# Altium schematic symbol library UVM AERO BSPD.SCHLIB: 70 symbols
Pins are listed as number, name and electrical type; pins without a type are passive.

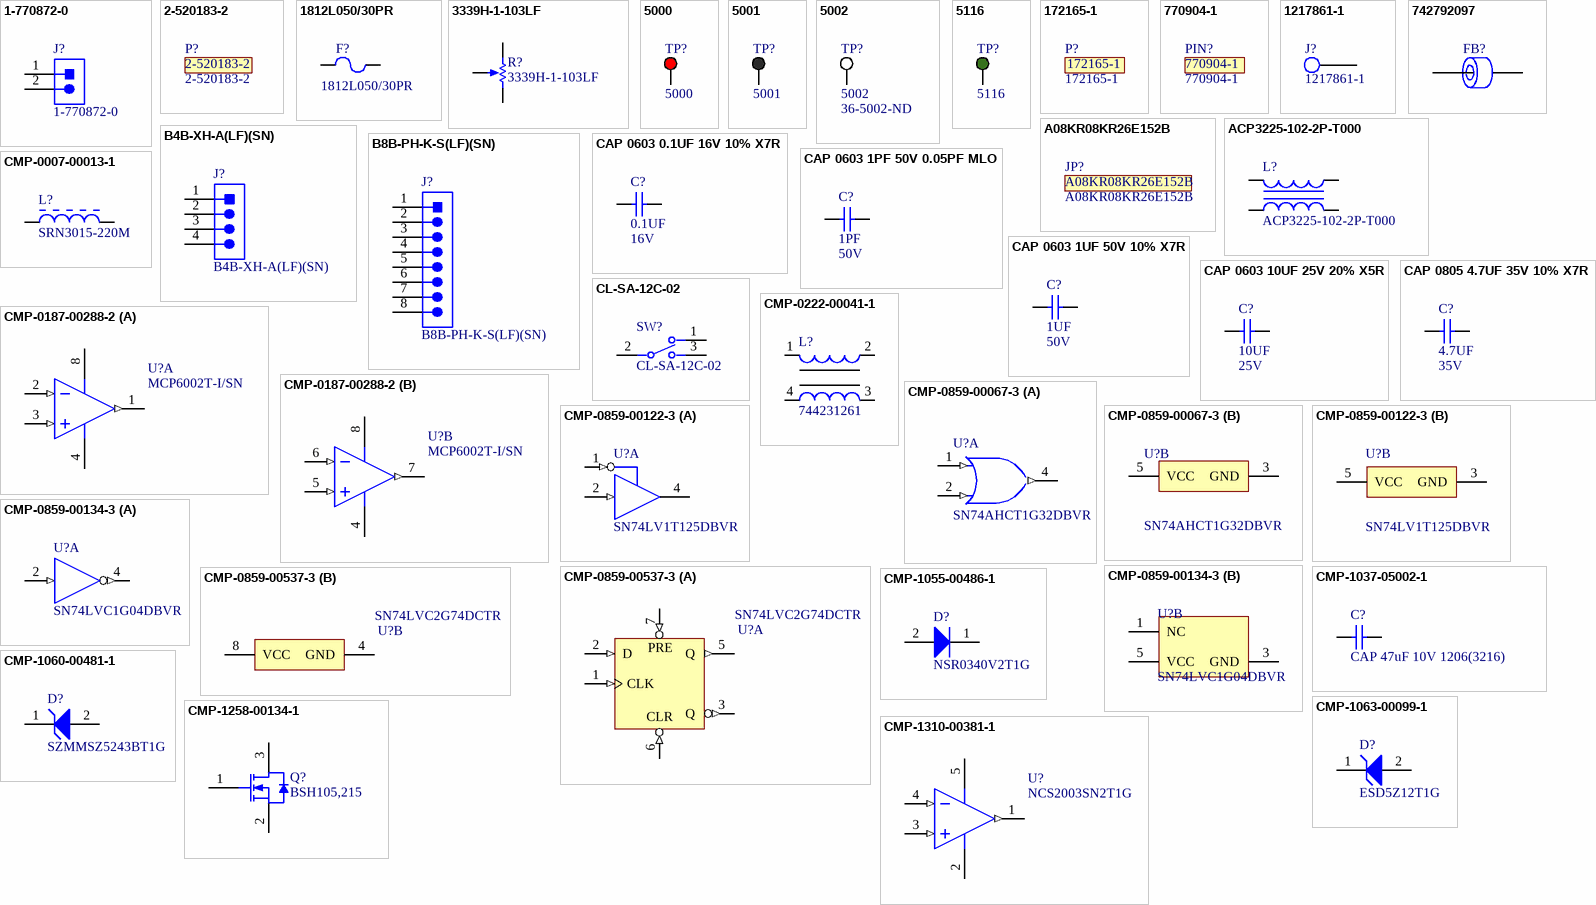
[diagram p0: symbols 1-770872-0 to CMP-1310-00381-1]

## 1-770872-0
designator J?
Connector Header Through Hole 2 position 0.163" (4.14mm); Vendor: TE Connectivity; Built_By: EMA_UL_Team; Manufacturer_Part_Number: 1-770872-0; Copyright: Copyright (C) 2018 Accelerated Designs. All rights reserved; RefDes: RefDes; Type: DEV; Value: Value
footprint CON2_1X2_P163_VM
footprint CON2_1X2_P163_VM_ALT
pins: 1, 2

## 2-520183-2
designator P?  (mechanical)
0.250" (6.35mm) Quick Connect Female 18-22 AWG Crimp Connector Fully Insulated; Supplier 1: Digi-Key; Supplier Part Number 1: A27817CT-ND

## 1812L050/30PR
designator F?
PTC Resettable Fuse, 0.8 W, 30 V, -40 to 85 degC, 2-Pin SMD, RoHS, Tape and Reel; Manufacturer: Littelfuse-Inc.; Manufacturer 1: Littelfuse; Voltage - Max: 30V; Current - Hold (Ih) (Max): 500mA; Time to Trip: 0.15s; Current - Max: 100A; R Min/Max: 0.150~1.000Ohm; Current - Trip (It): 1A; Package Reference: 1812; Family: PTCResettableFuses; Packaging: Tape&Reel(TR); Package / Case: 1812(4532Metric),Concave; Series: POLY-FUSE®,1812L; Mounting Technology: SurfaceMount; Datasheet Version: 02/2016; Datasheet URL: http://www.littelfuse.com/~/media/electronics/datasheets/resettable_ptcs/littelfuse_ptc_1812l_datasheet.pdf.pdf; Manufacturer URL: http://www.littelfuse.com/; Category: CircuitProtection; Package Description: 2-Pin Surface Mount Device, Body 4.55 x 3.24 mm; Manufacturer Part Number 1: 1812L050/30PR
footprint LFUS-1812L05030PR (SMD, 2-Leads, Body 4.55x3.24mm)
pins: 1, 2

## 3339H-1-103LF
designator R?
10 kOhms 0.5W, 1/2W PC Pins Through Hole Trimmer Potentiometer Cermet 4 Turn Top Adjustment; ComponentLink2URL: https://www.ttelectronics.com/TTElectronics/media/ProductFiles/Trimmers/Datasheets/67.pdf; ComponentLink2Description: Datasheet; Supplier 1: Digi-Key; Supplier Part Number 1: 3339H-103LF-ND
footprint 3339H-1-103LF
pins: 1 CCW, 2 WIPER, 3 CW

## 5000
designator TP?
Test Point, Red, 1-Pin THD, RoHS, Bulk; Manufacturer: KeystoneElectronics; Outside Diameter: 2.54mm; Plating: Silver; Mounting Hole Size: 1mm; Product: TestPoints; Packaging: Bulk; Manufacturer URL: http://www.keyelco.com/; Length: 7.62mm; Datasheet Version: Rev. G, 12/2008; Type: Miniature; Product Category: CircuitBoardHardware-PCB; Material: Nylon; RoHS: True; Contact Material: PhosphorBronze; Datasheet URL: https://ciiva.com/datasheet-click-2917627?src=ciiva&sig=bd195616; Color: Red; Brand: KeystoneElectronics; Supplier 1: Digi-Key; Supplier Part Number 1: 36-5000-ND
footprint KSTN-5002 (Test Point, Through Hole, Dia 2.54mm)
pins: 1

## 5001
designator TP?
Test Point, Black, 1-Pin THD, RoHS, Bulk; Manufacturer: KeystoneElectronics; Outside Diameter: 2.54mm; Plating: Silver; Mounting Hole Size: 1mm; Product: TestPoints; Packaging: Bulk; Manufacturer URL: http://www.keyelco.com/; Length: 7.62mm; Datasheet Version: Rev. G, 12/2008; Type: Miniature; Product Category: CircuitBoardHardware-PCB; Material: Nylon; RoHS: True; Contact Material: PhosphorBronze; Datasheet URL: https://ciiva.com/datasheet-click-2917627?src=ciiva&sig=bd195616; Color: Red; Brand: KeystoneElectronics; Supplier 1: Digi-Key; Supplier Part Number 1: 36-5001-ND
footprint KSTN-5002 (Test Point, Through Hole, Dia 2.54mm)
pins: 1

## 5002
designator TP?  Supplier Part Number 1: 36-5002-ND
Test Point, White, 1-Pin THD, RoHS, Bulk; Manufacturer: KeystoneElectronics; Outside Diameter: 2.54mm; Plating: Silver; Mounting Hole Size: 1mm; Product: TestPoints; Packaging: Bulk; Manufacturer URL: http://www.keyelco.com/; Length: 7.62mm; Datasheet Version: Rev. G, 12/2008; Type: Miniature; Product Category: CircuitBoardHardware-PCB; Material: Nylon; RoHS: True; Contact Material: PhosphorBronze; Datasheet URL: https://ciiva.com/datasheet-click-2917627?src=ciiva&sig=bd195616; Color: White; Brand: KeystoneElectronics; Supplier 1: Digi-Key
footprint KSTN-5002 (Test Point, Through Hole, Dia 2.54mm)
pins: 1

## 5116
designator TP?
Test Point, Green, 1-Pin THD, RoHS, Bulk; Manufacturer: KeystoneElectronics; Outside Diameter: 2.54mm; Plating: Silver; Mounting Hole Size: 1mm; Product: TestPoints; Packaging: Bulk; Manufacturer URL: http://www.keyelco.com/; Length: 7.62mm; Datasheet Version: Rev. G, 12/2008; Type: Miniature; Product Category: CircuitBoardHardware-PCB; Material: Nylon; RoHS: True; Contact Material: PhosphorBronze; Datasheet URL: https://ciiva.com/datasheet-click-2917627?src=ciiva&sig=bd195616; Color: Red; Brand: KeystoneElectronics; Supplier 1: Digi-Key; Supplier Part Number 1: 36-5116-ND
footprint KSTN-5002 (Test Point, Through Hole, Dia 2.54mm)
pins: 1

## 172165-1
designator P?  (mechanical)
2 Position Rectangular Housing Connector Plug Natural 0.163" (4.14mm); Supplier 1: Digi-Key; Supplier Part Number 1: A25587-ND

## 770904-1
designator PIN?  (mechanical)
Socket Contact  Crimp 18-22 AWG Stamped; Supplier 1: Digi-Key; Supplier Part Number 1: A25684CT-ND

## 1217861-1
designator J?
CONN TAB .250 STR QC TIN PCB; Gender: Male; Hole Diameter: 0.055inch; Insulation: Non-Insulated; Tab Length: 0.352inch; Tab Thickness: 0.032inch; Tab Width: 0.25inch; PCB Thickness: 0.062inch; Body Material: Brass; Insulated Wire Support: Yes; Contact Material: Brass; Contact Plating: Tin; ELV: Compliant; Length: 0.552inch; Material: Brass; Mount: Through Hole; Package Quantity: 2000; Packaging: Tape and Reel; Termination: Tab; Mating Tab Width: 0.25inch; Body Plating: Tin; Depth: 7.92mm; Plating: Tin; REACH SVHC: Unknown; Terminal Material: Brass; Lead Free: Lead Free; Supplier 1: Digi-Key; Supplier Part Number 1: A100452CT-ND
footprint 1217861-1
pins: 1

## 742792097
designator FB?, comment Ferrite Chip 1500 Ohms  (value not drawn)
Ferrite Chip 1000 mA 1500 Ohms Differential Mode - Single 0805 Footprint; Manufacturer: Wurth Electronics; P/N: 742792097; Description in Visual: Ferrite SMT 1000mA 1500Ohm Dif Mode 0805; Usage: Power Supply; Current (mA): 1000; Frequency: 100 MHz; Impedance at Freq (ohms): 1500; DC Resistance (ohms): 0.3; PCB Package: 0805; Manufacturer P/N: 742792097; Filter type: Differential Mode - Single; Operating Temperature Range: -55 to +125 °C; ComponentLink1Description: Manufacturer Website; ComponentLink1URL: http://www.we-online.com; ComponentLink2Description: Component Datasheet; ComponentLink2URL: http://www.we-online.com/eisos/pdf/742792097.pdf; ComponentLink3Description: Octopart Link; ComponentLink3URL: http://octopart.com/partsearch/#search/requestData&q=742792097
footprint 0805
pins: 1, 2

## A08KR08KR26E152B
designator JP?  (mechanical)
8 Position Cable Assembly Rectangular Socket to Socket 0.500' (152.40mm, 6.00"); Supplier 1: Digi-Key; Supplier Part Number 1: 455-3153-ND

## ACP3225-102-2P-T000
designator L?
Common Mode Filter, 1000 Ohm Impedance, 1.2 A, 60 V, -40 to 85 degC, 4-Pin SMD, RoHS, Tape and Reel; Manufacturer: TDK; Online Catalog: ACPSeries; Other Names: 445-8637-6; Current: 1.5A; Featured Product: ACP3225SeriesFilter; Number of Lines: 2; Filter Type: PowerLine; Impedance: 1kOhm; DC Resistance (DCR): 50mOhm; Manufacturer URL: http://www.tdk.com/; Package Description: 4-Pin Surface Mount Device, Body 3.2 x 2.5 mm, Pitch 1.15 mm; Datasheet Version: Rev. 8, 07/2011; Package / Case: 1210(3225Metric),4Lead; Packaging: Digi-Reel; Inductance: -; Height (Max): 0.079"(2.00mm); Operating Temperature: -40degC~85degC; Size / Dimension: 0.126"Lx0.098"W(3.20mmx2.50mm); Datasheet URL: https://datasheet.ciiva.com/30106/acp3225-series-30106482.pdf; Standard Package: 1; Series: ACP; Mounting Type: SurfaceMount; Package Reference: ACP3225-102-2P-T000-4; Family: CommonModeChokes; Category: Filters; Manufacturer 1: TDK; Manufacturer Part Number 1: ACP3225-102-2P-T000
footprint TDK-ACP3225-102-2P-T000-4_V (SMD, 4-Leads, Body 3.4x2.7mm)
pins: 1, 2, 3, 4

## B4B-XH-A(LF)(SN)
designator J?
Connector Header Through Hole 4 position 0.098" (2.50mm); Manufacturer: JST; No of Positions: 4; Style/Orientation: StraightHeader/Plug; Type: ShroudedHeader; Manufacturer URL: http://www.jst.com/home2.html; Termination: Crimp; Datasheet Version: Apr-09; Supplier 1: Newark; Supplier Part Number 1: 73M9436
footprint B4B-XH-A(LF)(SN)
pins: 1, 2, 3, 4

## B8B-PH-K-S(LF)(SN)
designator J?
Connector Header Through Hole 8 position 0.079" (2.00mm); Supplier 1: Digi-Key; Supplier Part Number 1: 455-1710-ND
footprint B8B-PH-K
pins: 1, 2, 3, 4, 5, 6, 7, 8

## CAP 0603 0.1UF 16V 10% X7R
designator C?  Val: 0.1UF  Vol: 16V  (hidden comment: CAP 0603 0.1UF 16V 10% X7R)
Capacitor Surface Mount 0603 Footprint 0.1UF 16V 10% Tolerance Ceramic X7R; Manufacturer: Various; PCB Package: 0603; Description in Visual: Cap SMT 0603 0.1UF 16V 10%  Cer X7R; P/N: CAP 0603 0.1UF 16V 10% X7R; Manufacturer P/N: Various; Value: 0.1UF; Voltage: 16V; Tolerance: 10%; Type: Ceramic X7R; ComponentLink1Description: Manufacturer Website; ComponentLink2Description: Component Datasheet; ComponentLink3Description: Octopart Link
footprint 0603_CAP
pins: 1, 2

## CAP 0603 1PF 50V 0.05PF MLO
designator C?  Val: 1PF  Vol: 50V  (hidden comment: CAP 0603 1PF 50V 0.05PF MLO)
Capacitor Surface Mount 0603 Footprint 1PF 50V 0.05PF Tolerance MLO; Manufacturer: Various; PCB Package: 0603; Description in Visual: Cap SMT 0603 1PF 50V 0.05PF  MLO; P/N: CAP 0603 1PF 50V 0.05PF MLO; Manufacturer P/N: Various; Value: 1PF; Voltage: 50V; Tolerance: 0.05PF; Type: MLO; ComponentLink1Description: Manufacturer Website; ComponentLink2Description: Component Datasheet; ComponentLink3Description: Octopart Link
footprint 0603_CAP
pins: 1, 2

## CAP 0603 1UF 50V 10% X7R
designator C?  Val: 1UF  Vol: 50V  (hidden comment: CAP 0603 1UF 50V 10% X7R)
Capacitor Surface Mount 0603 Footprint 1UF 50V 10% Tolerance Ceramic X7R; Manufacturer: Various; PCB Package: 0603; Description in Visual: Cap SMT 0603 1UF 50V 10% Ceramic X7R; P/N: CAP 0603 1UF 50V 10% X7R; Manufacturer P/N: Various; Value: 1UF; Voltage: 50V; Tolerance: 10%; Type: Ceramic X7R; ComponentLink1Description: Manufacturer Website; ComponentLink2Description: Component Datasheet; ComponentLink3Description: Octopart Link
footprint 0603_CAP
pins: 1, 2

## CAP 0603 10UF 25V 20% X5R
designator C?  Val: 10UF  Vol: 25V  (hidden comment: CAP 0603 10UF 25V 20% X5R)
Capacitor Surface Mount 0603 Footprint 10UF 25V 20% Tolerance Ceramic X5R; Manufacturer: Various; PCB Package: 0603; Description in Visual: Cap SMT 0603 10UF 25V 20% Ceramic X5R; P/N: CAP 0603 10UF 25V 20% X5R; Manufacturer P/N: Various; Value: 10UF; Voltage: 25V; Tolerance: 20%; Type: Ceramic X5R; ComponentLink1Description: Manufacturer Website; ComponentLink2Description: Component Datasheet; ComponentLink3Description: Octopart Link
footprint 0603_CAP
pins: 1, 2

## CAP 0805 4.7UF 35V 10% X7R
designator C?  Val: 4.7UF  Vol: 35V  (hidden comment: CAP 0805 4.7UF 35V 10% X7R)
Capacitor Surface Mount 0805 Footprint 4.7UF 35V 10% Tolerance Ceramic X7R; Manufacturer: Various; PCB Package: 0805; Description in Visual: Cap SMT 0805 4.7UF 35V 10%  Cer X7R; P/N: CAP 0805 4.7UF 35V 10% X7R; Manufacturer P/N: Various; Value: 4.7UF; Voltage: 35V; Tolerance: 10%; Type: Ceramic X7R; ComponentLink1Description: Manufacturer Website; ComponentLink2Description: Component Datasheet; ComponentLink3Description: Octopart Link
footprint 0805_CAP
pins: 1, 2

## CL-SA-12C-02
designator SW?
Slide Switch SPDT Through Hole; Supplier 1: Digi-Key; Supplier Part Number 1: 563-1388-ND
footprint CL-SA-12C-02
pins: 1, 2, 3

## CMP-0007-00013-1
designator L?, comment SRN3015-220M
Semi-shielded Power Inductor, 22 uH, +/- 20%, 0.6 A, -40 to 125 degC, 3 x 3 x 1.5 mm SMD, RoHS and Halogen Free, Tape and Reel; Manufacturer: Bourns; SRF Min: 28 MHz; Isat: 0.58 A; Resistance to Solder Heat: +260 degC for 10 sec.; Inductance tolerance: +/- 20%; Inductance: 22 uH; Rated current: 0.6 A; DCR Max: 0.622 Ohm; RoHS: TRUE; ComponentLink1Description: Manufacturer URL; ComponentLink3URL: http://www.bourns.com/data/global/pdfs/SRN3015.pdf; PartNumber: SRN3015-220M; DatasheetVersion: Aug-11; Mounting Technology: Surface Mount; ComponentLink3Description: Package Specification; ComponentLink2Description: Datasheet; Operating Temperature: -40 to 125 degC; PackageDescription: 2-Pin SMD, Body 3 x 3 mm, Height 1.5 mm; Packing: Tape and Reel; PackageReference: SRN3015; ComponentLink2URL: http://www.bourns.com/data/global/pdfs/SRN3015.pdf; ComponentLink1URL: http://www.bourns.com/; Manufacturer 1: Bourns; Manufacturer Part Number 1: SRN3015-220M
footprint BOUR-SRN3015-2_V (SMD, 2-Leads, Body 3x3mm, Height 1.5mm)
pins: 1, 2

## CMP-0187-00288-2
designator U?, comment MCP6002T-I/SN
1 MHz, Low-Power Operational Amplifier, 8-Pin SOIC, Industrial Temperature, Tape and Reel; Manufacturer 1: Microchip; ComponentLink2Description: Datasheet; Code_JEDEC: MS-012; ComponentLink1Description: Manufacturer URL; PackageDescription: 8-Lead Plastic Small Outline (SN) - Narrow, 3.90mm Body [SOIC]; PackageVersion: revBB, Aug-2009; DatasheetVersion: revJ, Nov-2009; Code_IPC: SOIC127P600-8; ComponentLink3URL: http://www.microchip.com/stellent/groups/techpub_sg/documents/packagingspec/en012702.pdf; ComponentLink3Description: Package Specification; PackageReference: SOIC-SN8; ComponentLink2URL: http://ww1.microchip.com/downloads/en/DeviceDoc/21733j.pdf; RevisionNote: URLs added.; ComponentLink1URL: http://www.microchip.com/; Manufacturer Part Number 1: MCP6002T-I/SN
footprint SOIC-SN8_L (SOIC, 8-Leads, Body 4.9x3.8mm, Pitch 1.27mm, IPC High Density)
footprint SOIC-SN8_N (SOIC, 8-Leads, Body 4.9x3.8mm, Pitch 1.27mm, IPC Medium Density)
footprint SOIC-SN8_M (SOIC, 8-Leads, Body 4.9x3.8mm, Pitch 1.27mm, IPC Low Density)
pins on every part: 4 VSS (power), 8 VDD (power)
part A pins: 1 VOUTA (out), 2 VINA- (in), 3 VINA+ (in)
part B pins: 5 VINB+ (in), 6 VINB- (in), 7 VOUTB (out)

## CMP-0222-00041-1
designator L?, comment 744231261
SMD Common Mode Noise Suppressor WE-CNSW, Z = 260 Ohm; Manufacturer 1: Wurth Electronics; Impedance: 260 Ohm; ComponentLink1URL: http://www.we-online.com; PackageDescription: SMD Inductor, 4-Leads, Body 1.4 x 2.2 mm; PackageVersion: 2010; ComponentLink2Description: Datasheet; DatasheetVersion: ver 4, Nov-2010; ComponentLink1Description: Manufacturer Link; PackageReference: WE-CNSW-0805; ComponentLink2URL: http://www.we-online.de/katalog/media/pdf/744231261.pdf; Manufacturer Part Number 1: 744231261
footprint WE-CNSW-0805 (SMD Inductor, 4-Leads, Body 1.4x2.2x1.4 mm)
pins: 1, 2, 3, 4

## CMP-0859-00067-3
designator U?, comment SN74AHCT1G32DBVR
Single 2-Input Positive-OR Gate, DBV0005A, LARGE T&R; Manufacturer: Texas Instruments; Technology Family: AHCT; VCC(Min)(V): 2; Voltage(Nom)(V): 5; Schmitt Trigger: No; Gate Type: OR; Sub-Family: OR Gate; Input Type: CMOS; ICC @ Nom Voltage(Max)(mA): 0.01; VCC(Max)(V): 5.5; Bits(#): 1; F @ Nom Voltage(Max)(Mhz): 75; Output Drive (IOL/IOH)(Max)(mA): 8/-8; tpd @ Nom Voltage(Max)(ns): 8; Logic: True; Rating: Catalog; Operating Temperature Range(C): -40 to 125; Generic Part Number: SN74AHCT1G32; DatasheetVersion: SCLS320O; PackageReference: DBV0005A; 3-State Output: No; Output Type: CMOS; Manufacturer 1: Texas Instruments; Manufacturer Part Number 1: SN74AHCT1G32DBVR
footprint DBV0005A_M (SOT23, 5-Leads, Body 3.05x1.75mm, Pitch 0.95mm, IPC Low Density)
footprint DBV0005A_N (SOT23, 5-Leads, Body 3.05x1.75mm, Pitch 0.95mm, IPC Medium Density)
footprint DBV0005A_L (SOT23, 5-Leads, Body 3.05x1.75mm, Pitch 0.95mm, IPC High Density)
part A pins: 1 A (in) "Input A", 2 B (in) "Input B", 4 Y (out) "Output Y"
part B pins: 3 GND (power) "Ground Pin", 5 VCC (power) "Power Pin"

## CMP-0859-00122-3
designator U?, comment SN74LV1T125DBVR
Single Power Supply, Single BUFFER GATE w/ 3-State Output (active low enable), DBV0005A, LARGE T&R; Manufacturer: Texas Instruments; Schmitt Trigger: No; Sub-Family: Non-Inverting Buffer/Driver; Voltage(Nom)(V): 1.8,2.5,3.3,5.5; Output Drive (IOL/IOH)(Max)(mA): 8/-8; Bits(#): 1; Technology Family: LV1T; F @ Nom Voltage(Max)(Mhz): 50; Output Type: CMOS; Input Type: TTL; VCC(Min)(V): 1.6; tpd @ Nom Voltage(Max)(ns): 14.5,9.5,8.0,6.5; 3-State Output: Yes; ICC @ Nom Voltage(Max)(mA): 0.01; Rating: Catalog; Logic: True; Special Features: 1.8V to 3.3V Up Translation,3.3V to 1.8V Down Translation,5V Input Tolerant; VCC(Max)(V): 5.5; PackageReference: DBV0005A; Generic Part Number: SN74LV1T125; Operating Temperature Range(C): -40 to 125; DatasheetVersion: SCLS745A; Manufacturer 1: Texas Instruments; Manufacturer Part Number 1: SN74LV1T125DBVR
footprint DBV0005A_M (SOT23, 5-Leads, Body 3.05x1.75mm, Pitch 0.95mm, IPC Low Density)
footprint DBV0005A_N (SOT23, 5-Leads, Body 3.05x1.75mm, Pitch 0.95mm, IPC Medium Density)
footprint DBV0005A_L (SOT23, 5-Leads, Body 3.05x1.75mm, Pitch 0.95mm, IPC High Density)
part A pins: 1 ~{OE} (in), 2 A (in), 4 Y (hiz)
part B pins: 3 GND (power), 5 VCC (power)

## CMP-0859-00134-3
designator U?, comment SN74LVC1G04DBVR
Single Inverter, DBV0005A, LARGE T&R; Manufacturer: Texas Instruments; 3-State Output: No; Sub-Family: Inverting Buffer/Driver; Logic: Inverting; Rating: Catalog; VCC(Max)(V): 5.5; ICC @ Nom Voltage(Max)(mA): 0.01; Output Type: CMOS; Output Drive (IOL/IOH)(Max)(mA): 32/-32; tpd @ Nom Voltage(Max)(ns): 7.5,5.2,4.2,3.7; Technology Family: LVC; Input Type: CMOS/TTL; Bits(#): 1; F @ Nom Voltage(Max)(Mhz): 150; VCC(Min)(V): 1.65; Voltage(Nom)(V): 1.8,2.5,3.3,5; DatasheetVersion: SCES214AD; Schmitt Trigger: No; Operating Temperature Range(C): -40 to 125,-40 to 85; PackageReference: DBV0005A; Generic Part Number: SN74LVC1G04; Manufacturer 1: Texas Instruments; Manufacturer Part Number 1: SN74LVC1G04DBVR
footprint DBV0005A_M (SOT23, 5-Leads, Body 3.05x1.75mm, Pitch 0.95mm, IPC Low Density)
footprint DBV0005A_N (SOT23, 5-Leads, Body 3.05x1.75mm, Pitch 0.95mm, IPC Medium Density)
footprint DBV0005A_L (SOT23, 5-Leads, Body 3.05x1.75mm, Pitch 0.95mm, IPC High Density)
part A pins: 2 A (in) "Input A", 4 Y (out) "Output Y"
part B pins: 1 NC "Ground", 3 GND (power) "Ground Pin", 5 VCC (power) "Power Pin"

## CMP-0859-00537-3
designator U?, comment SN74LVC2G74DCTR
Single Positive-Edge-Triggered D-Type Flip-Flop with Clear and Preset, DCT0008A, LARGE T&R; Manufacturer: Texas Instruments; Output Type: CMOS; Schmitt Trigger: No; ICC @ Nom Voltage(Max)(mA): 0.01; VCC(Max)(V): 5.5; Output Drive (IOL/IOH)(Max)(mA): 32/-32; Input Type: CMOS/TTL; Rating: Catalog; Technology Family: LVC; Bits(#): 1; F @ Nom Voltage(Max)(Mhz): 150; tpd @ Nom Voltage(Max)(ns): 13.4,7.1,5.9,4.1; Voltage(Nom)(V): 1.8,2.5,3.3,5; Logic: True; VCC(Min)(V): 1.65; Operating Temperature Range(C): -40 to 125,-40 to 85; Sub-Family: D-Type Flip-Flop; Generic Part Number: SN74LVC2G74; 3-State Output: No; PackageReference: DCT0008A; DatasheetVersion: SCES203O; Manufacturer 1: Texas Instruments; Manufacturer Part Number 1: SN74LVC2G74DCTR
footprint DCT0008A_M (SOP, 8-Leads, Body 2.9x3.2mm, Pitch 0.65mm, IPC Low Density)
footprint DCT0008A_L (SOP, 8-Leads, Body 2.9x3.2mm, Pitch 0.65mm, IPC High Density)
footprint DCT0008A_N (SOP, 8-Leads, Body 2.9x3.2mm, Pitch 0.65mm, IPC Medium Density)
part A pins: 1 CLK (in) "Clock input", 2 D (in) "Input", 3 Q (out) "Inverted output", 5 Q (out) "Output", 6 ~{CLR} (in) "Clear input - Pull low to set Q output low", 7 ~{PRE} (in) "Preset input - Pull low to set Q output high"
part B pins: 4 GND (power) "Ground", 8 VCC (power) "Supply"
part A text: PRE; CLR

## CMP-1037-05002-1
designator C?, comment CAP 47uF 10V 1206(3216)
CAP 47uF 10V ±20% 1206 (3216 Metric) Thickness 1.9mm SMD; Manufacturer 1: KEMET; Manufacturer Part Number 1: C1206C476M8PACTU; Case-Metric: 3216; Case-EIA: 1206; Tolerance: Â±20%; Technology: SMT; Rated Voltage: 10 V; Value: 47uF; Max Thickness: 1.9 mm; Manufacturer 2: TDK; Manufacturer Part Number 2: C3216X5R1A476M; Manufacturer 3: TDK; Manufacturer Part Number 3: C3216X6S1A476M; Manufacturer 4: KEMET; Manufacturer Part Number 4: C1206C476M8PAC
footprint CAPC1206(3216)190_N (Chip Capacitor, Body 3.2x1.6mm, Height 1.9mm, IPC Medium Density)
footprint CAPC1206(3216)190_M (Chip Capacitor, Body 3.2x1.6mm, Height 1.9mm, IPC Low Density)
footprint CAPC1206(3216)190_L (Chip Capacitor, Body 3.2x1.6mm, Height 1.9mm, IPC High Density)
pins: 1, 2
1 alternate drawing of the same symbol

## CMP-1055-00486-1
designator D?, comment NSR0340V2T1G
Schottky Barrier Diode, 2-Pin SOD-523, Pb-Free, Tape and Reel; Manufacturer: On Semiconductor; IFSM Max (A): 1; Configuration: Single; PackageDescription: 2-Pin SOD, Body 1.2 x 0.8 mm; DatasheetVersion: Rev. 1; RoHS: TRUE; ComponentLink1Description: Manufacturer URL; ComponentLink2Description: Datasheet; PackageVersion: Rev. E, 09/2010; Packing: Tape and Reel; ComponentLink3Description: Package Specification; ComponentLink3URL: http://www.onsemi.com/pub_link/Collateral/502-01.PDF; ComponentLink2URL: http://www.onsemi.cn/pub_link/Collateral/NSR0340V2T1-D.PDF; PackageReference: SOD-523-2-502-01; PartNumber: NSR0340V2T1G; ComponentLink1URL: http://www.onsemi.com/; Mounting Technology: Surface Mount; Manufacturer 1: ON Semiconductor; Manufacturer Part Number 1: NSR0340V2T1G
footprint ONSC-SOD-523-2-502-01_V (SOD, 2-Leads, Body 1.2x0.8mm)
pins: 1 K, 2 A

## CMP-1060-00481-1
designator D?, comment SZMMSZ5243BT1G
Zener Voltage Regulator, 500 mW, 2-Pin SOD-123, Pb-Free, Tape and Reel; Manufacturer: On Semiconductor; VZ Typ (V): 13; P Max (W): 0.5; DatasheetVersion: Rev. 12; RoHS: Pb-Free; PartNumber: SZMMSZ5243BT1G; ComponentLink3Description: Package Specification; ComponentLink1URL: http://www.onsemi.com/; PackageReference: SOD-123-2-425-04; ComponentLink2Description: Datasheet; PackageVersion: Rev. G, 10/2009; Packing: Tape and Reel; Mounting Technology: Surface Mount; ComponentLink1Description: Manufacturer URL; PackageDescription: 2-Pin SOD, Body 1.6 x 2.69 mm; ComponentLink2URL: http://www.onsemi.cn/pub_link/Collateral/MMSZ5221BT1-D.PDF; ComponentLink3URL: http://www.onsemi.com/pub_link/Collateral/425-04.PDF; Manufacturer 1: ON Semiconductor; Manufacturer Part Number 1: SZMMSZ5243BT1G
footprint ONSC-SOD-123-2-425-04_V (SOD, 2-Leads, Body 2.69x1.6mm)
pins: 1 K, 2 A

## CMP-1063-00099-1
designator D?, comment ESD5Z12T1G
Transient Voltage Suppressor, Micro-Packaged Diode for ESD Protection, 2-Pin SOD-523, Pb-Free, Tape and Reel; Manufacturer: On Semiconductor; VRWM Max (V): 12; Number of Lines: 1; V(BR) Min (V): 14.1; Direction: Unidirectional; IR Max (uA): 0.01; PPK Max (W): 240; ComponentLink1URL: http://www.onsemi.com/; PartNumber: ESD5Z12T1G; RoHS: Pb-Free; ComponentLink3Description: Package Specification; PackageVersion: Rev. E, 09/2010; PackageReference: SOD-523-2-502-01; PackageDescription: 2-Pin SOD, Body 1.2 x 0.8 mm; ComponentLink2Description: Datasheet; ComponentLink1Description: Manufacturer URL; Mounting Technology: Surface Mount; DatasheetVersion: Rev. 10; ComponentLink3URL: http://www.onsemi.com/pub_link/Collateral/502-01.PDF; ComponentLink2URL: http://www.onsemi.cn/pub_link/Collateral/ESD5Z2.5T1-D.PDF; Packing: Tape and Reel; Manufacturer 1: ON Semiconductor; Manufacturer Part Number 1: ESD5Z12T1G
footprint ONSC-SOD-523-2-502-01_V (SOD, 2-Leads, Body 1.2x0.8mm)
pins: 1 K, 2 A

## CMP-1258-00134-1
designator Q?, comment BSH105,215
N-Channel Enhancement Mode MOS Transistor, 20 V, 1.05 A, -55 to 150 degC, 3-Pin SOT23, Tape and Reel; Manufacturer: NXP Semiconductors; Manufacturer Part Number 1: BSH105215; VDS [max] (V): 20; Packing: Tape & Reel; ID [max] (A): 1.05; Channel Type: N; Ciss [typ] (pF): 152; Coss [typ] (pF): 71; Qr [typ] (nC): 19; VGSth [typ] (V): 0.57; PackageDescription: 3-Pin Small Outline Transistor Package, Body 2.9 x 1.3 mm, Pitch 0.95 mm; ComponentLink2URL: http://www.nxp.com/documents/data_sheet/BSH105.pdf; ComponentLink3Description: Package Specification; ComponentLink2Description: Datasheet; Mounting Technology: Surface Mount; ComponentLink3URL: http://www.nxp.com/documents/outline_drawing/sot023_po.pdf; PartNumber: BSH105,215; DatasheetVersion: Rev. 1.000; ComponentLink1Description: Manufacturer URL; ComponentLink1URL: http://www.nxp.com/; PackageVersion: 06-03-16, 03/2006; PackageReference: SOT23; Code_JEDEC: TO-236AB; Manufacturer 1: NXP Semiconductors
footprint NXP-SOT23_M (SOT23, 3-Leads, Body 3x1.4mm, Pitch 0.95mm, IPC Low Density)
footprint NXP-SOT23_N (SOT23, 3-Leads, Body 3x1.4mm, Pitch 0.95mm, IPC Medium Density)
footprint NXP-SOT23_L (SOT23, 3-Leads, Body 3x1.4mm, Pitch 0.95mm, IPC High Density)
pins: 1 G "gate", 2 S "source", 3 D "drain"

## CMP-1310-00381-1
designator U?, comment NCS2003SN2T1G
Low Voltage, Rail-to-Rail Output Operational Amplifier, 1.7 to 5.5 V, -40 to 85 degC, 5-Pin TSOP, Pb-Free, Tape and Reel; Manufacturer: On Semiconductor; VCC Max (V): 5.5; VCC Min (V): 1.7; ComponentLink3URL: http://www.onsemi.com/pub_link/Collateral/483.PDF; Packing: Tape and Reel; ComponentLink1URL: http://www.onsemi.com/; PackageReference: TSOP-5-483-02; Mounting Technology: Surface Mount; PackageVersion: Rev. K, 04/2013; PartNumber: NCS2003SN2T1G; DatasheetVersion: Rev. 3; ComponentLink2URL: http://www.onsemi.cn/pub_link/Collateral/NCS2003-D.PDF; ComponentLink2Description: Datasheet; ComponentLink3Description: Package Specification; RoHS: TRUE; PackageDescription: 5-Pin Small Outline Package, Body 3 x 1.5 mm, Pitch 0.95 mm; ComponentLink1Description: Manufacturer URL; Manufacturer 1: ON Semiconductor; Manufacturer Part Number 1: NCS2003SN2T1G
footprint ONSC-TSOP-5-483-02_V (SOP, 5-Leads, Body 3x1.5mm, Pitch 0.95mm)
pins: 1 VOUT (out), 2 VSS (power), 3 IN+ (in), 4 IN- (in), 5 VDD (power)

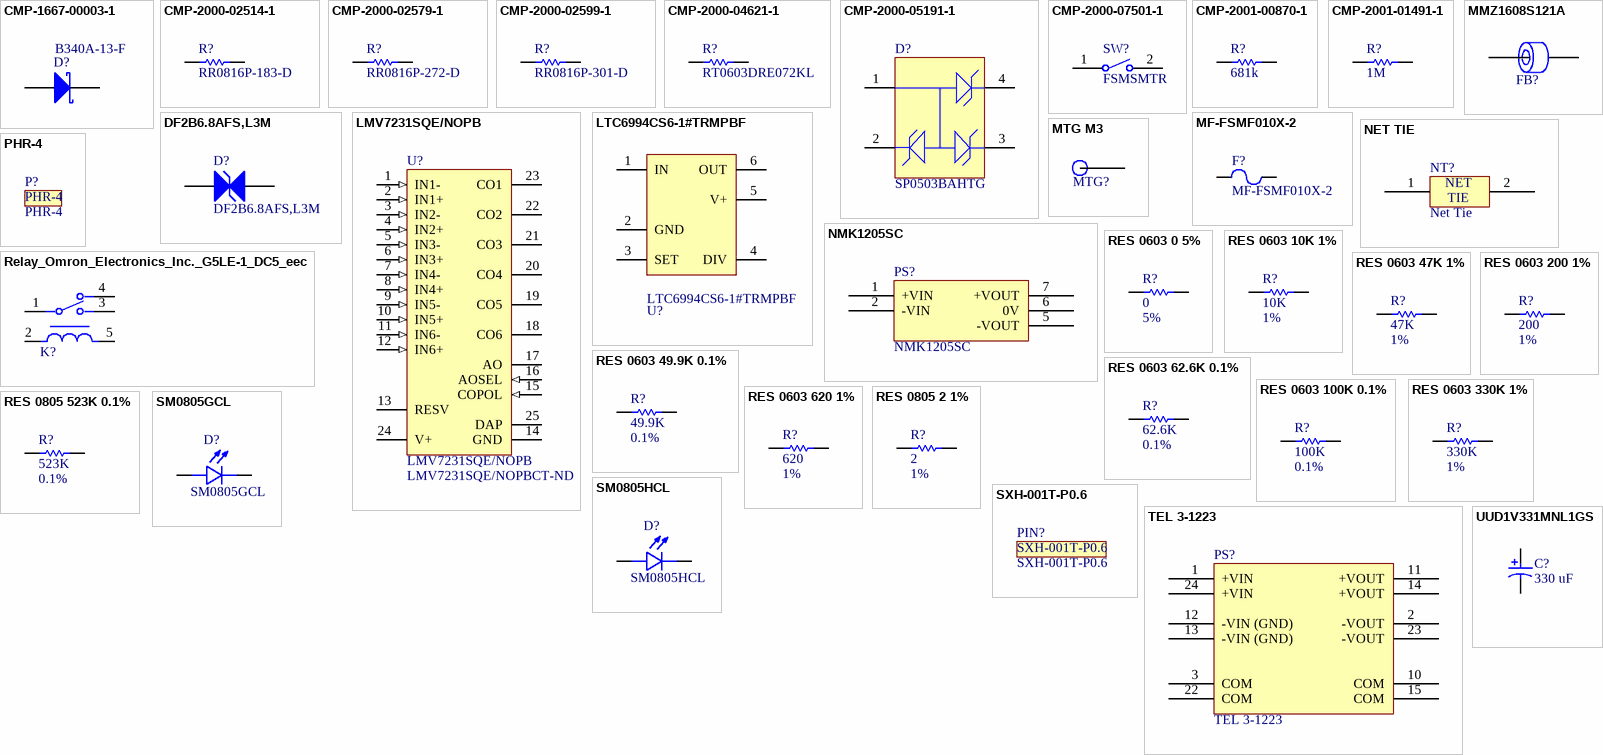
[diagram p1: symbols CMP-1667-00003-1 to UUD1V331MNL1GS]

## CMP-1667-00003-1
designator D?, comment B340A-13-F
Surface Mount Schottky Barrier Rectifier, 40 V, 3 A, -55 to 150 degC, 2-Pin SMA, RoHS, Tape and Reel; Manufacturer 1: Diodes; Forward Current: 3 A; Forward Voltage: 500 mV; Max Surge Current: 80 A; Peak Reverse Current: 500 uA; Elements: 1; Mounting Technology: Surface Mount; ComponentLink1URL: http://www.diodes.com/; PackageDescription: 2-Pin Surface Mounted Assembly, Body 4.3 x 2.605 mm, Height 2.4 mm; Min Operating Temperature: -55 degC; Mount: Surface Mount; Pins: 2; ComponentLink2URL: http://www.diodes.com/_files/datasheets/ds30891.pdf; PackageReference: SMA-2; Max Operating Temperature: 125 degC; Radiation Hardening: No; Length: 4.6 mm; RoHSCompliant: true; ComponentLink1Description: Manufacturer URL; Height: 2.1 mm; ComponentLink2Description: Datasheet; Packaging: Tape and Reel; Package Quantity: 5000; Case\Package: SMA; DatasheetVersion: Rev. 17 - 2, 09/2015; REACH SVHC: No SVHC; Width: 2.92 mm; Manufacturer Part Number 1: B340A-13-F
footprint DIOD-SMA-2_V (Molded Diode, 2-Leads, Body 4.6x2.92mm)
pins: 1 A, 2 K

## CMP-2000-02514-1
designator R?, comment RR0816P-183-D
Manufacturer: Susumu; Part Number: RR0816P-183-D; Manufacturer 1: Susumu; Manufacturer Part Number 1: RR0816P-183-D
footprint RESC1608X50X30ML20T20 (Chip Resistor, 2-Leads, Body 1.60x0.80mm, IPC Low Density)
footprint RESC1608X50X30LL20T20 (Chip Resistor, 2-Leads, Body 1.60x0.80mm, IPC High Density)
footprint RESC1608X50X30NL20T20 (Chip Resistor, 2-Leads, Body 1.60x0.80mm, IPC Medium Density)
pins: 1, 2
1 alternate drawing of the same symbol

## CMP-2000-02579-1
designator R?, comment RR0816P-272-D
Manufacturer: Susumu; Part Number: RR0816P-272-D; Manufacturer 1: Susumu; Manufacturer Part Number 1: RR0816P-272-D
footprint RESC1608X50X30NL20T20 (Chip Resistor, 2-Leads, Body 1.60x0.80mm, IPC Medium Density)
footprint RESC1608X50X30LL20T20 (Chip Resistor, 2-Leads, Body 1.60x0.80mm, IPC High Density)
footprint RESC1608X50X30ML20T20 (Chip Resistor, 2-Leads, Body 1.60x0.80mm, IPC Low Density)
pins: 1, 2
1 alternate drawing of the same symbol

## CMP-2000-02599-1
designator R?, comment RR0816P-301-D
Manufacturer: Susumu; Part Number: RR0816P-301-D; Manufacturer 1: Susumu; Manufacturer Part Number 1: RR0816P-301-D
footprint RESC1608X50X30ML20T20 (Chip Resistor, 2-Leads, Body 1.60x0.80mm, IPC Low Density)
footprint RESC1608X50X30NL20T20 (Chip Resistor, 2-Leads, Body 1.60x0.80mm, IPC Medium Density)
footprint RESC1608X50X30LL20T20 (Chip Resistor, 2-Leads, Body 1.60x0.80mm, IPC High Density)
pins: 1, 2
1 alternate drawing of the same symbol

## CMP-2000-04621-1
designator R?, comment RT0603DRE072KL
Manufacturer: Yageo; Part Number: RT0603DRE072KL; Manufacturer 1: Yageo; Manufacturer Part Number 1: RT0603DRE072KL
footprint RESC1608X55X25NL10T15 (Chip Resistor, 2-Leads, Body 1.60x0.80mm, IPC Medium Density)
footprint RESC1608X55X25ML10T15 (Chip Resistor, 2-Leads, Body 1.60x0.80mm, IPC Low Density)
footprint RESC1608X55X25LL10T15 (Chip Resistor, 2-Leads, Body 1.60x0.80mm, IPC High Density)
pins: 1, 2
1 alternate drawing of the same symbol

## CMP-2000-05191-1
designator D?, comment SP0503BAHTG
TVS Diode Array, 30 pF, 30 KV, -40 to 85 degC, 4-Pin SOT143, RoHS, Tape and Reel; Manufacturer: Littelfuse; Direction Type: Uni-Directional; Product Height (mm): 1.05mm; Leakage Current (Max): 0.1uA; Clamping Voltage (Max): 8V; Reverse Stand-off Voltage: 5.5(Min)V; Configuration: Triple; Working Voltage: 5.5V; Product Length (mm): 3.04mm; Working Voltage (Max): 5.5V(Min); Capacitance Value: 30pF; Rad Hardened: No; Number of Elements: 3; Product Depth (mm): 1.4mm; Operating Temperature Max Deg. C: 85C; Suppressor Type: TVS; Operating Temperature Min Deg. C: -40C; Operating Temp Range: -40Cto85C; Mounting: SurfaceMount; Package / Case: SOT-143; Datasheet Version: Dec-13; Package Type: SOT-143; Packaging: TapeandReel; Pin Count: 3+Tab; Operating Temperature Classification: Industrial; Datasheet URL: https://datasheet.ciiva.com/15143/getdatasheetpartid-116020-15143550.pdf; Manufacturer URL: http://www.littelfuse.com/; Leakage Current: 0.1uA; Mounting Style: SurfaceMount; Clamping Voltage: 8V; Polarity: Uni-Directional; Manufacturer 1: Littelfuse; Manufacturer Part Number 1: SP0503BAHTG
footprint LFUS-SOT143-4_V (SOT143, 4-Leads, Body 3.04x1.4mm, Pitch 1.90mm)
pins: 1, 2, 3, 4

## CMP-2000-07501-1
designator SW?, comment FSMSMTR
FSMSM Push Button Switch, 50 mA, -35 to 85 degC, 2-Pin SMD, RoHS, Tape and Reel; Manufacturer: TE Connectivity; Voltage Rating (DC): 24V; Electrical Life: 20000Cycles; Operating Force: 180gf; Switch Travel: 0.25mm; Contact Current Rating: 50mA; Case\/Package: SMD/SMT; Actuator Length: 1.07mm; Throw Configuration: SPST; Actuator Material: Polyamide; Contact Resistance: 100mOhm; Illumination Type: Illuminated; Max Voltage Rating (DC): 12V; Manufacturer URL: http://www.te.com/; Lead Free: LeadFree; Packaging: TapeandReel; Min Operating Temperature: -35degC; Mechanical Life: 20000Cycles; Mount: SurfaceMount; REACH SVHC: Unknown; Package Quantity: 1800; Package Reference: FSMSMTR; RoHSCompliant: true; Max Operating Temperature: 85degC; Orientation: Straight; ELV: Compliant; Datasheet URL: http://www.te.com/commerce/DocumentDelivery/DDEController?Action=showdoc&DocId=Customer+Drawing%7F1437566-3%7FC2%7Fpdf%7FEnglish%7FENG_CD_1437566-3_C2_1437566_3_1_c.dwg.pdf%7F1437566-4; Package Description: 2-Pin Surface Mount Device, Body 6 x 3.5 mm, Pitch 9.19 mm; Current Rating: 50mA; Contact Plating: Silver; Termination: GullWing; Datasheet Version: Rev. C2, 08/2014; Contact Material: Brass; Mounting Technology: SurfaceMount; Manufacturer 1: TE Connectivity; Manufacturer Part Number 1: FSMSMTR
footprint TECO-FSMSMTR_V (SMD, 2-Leads, Body 6x3.5mm, Pitch 9.19mm)
pins: 1, 2

## CMP-2001-00870-1
designator R?, comment value 681k  (hidden comment: ERA6AEB6813V)
Manufacturer: Panasonic; Manufacturer Part Number 1: ERA-6AEB6813V; Part Number: ERA6AEB6813V; Manufacturer 1: Panasonic
footprint RESC2013X60X40NL20T25 (Chip Resistor, 2-Leads, Body 2.00x1.25mm, IPC Medium Density)
footprint RESC2013X60X40LL20T25 (Chip Resistor, 2-Leads, Body 2.00x1.25mm, IPC High Density)
footprint RESC2013X60X40ML20T25 (Chip Resistor, 2-Leads, Body 2.00x1.25mm, IPC Low Density)
pins: 1, 2
1 alternate drawing of the same symbol

## CMP-2001-01491-1
designator R?, comment value 1M  (hidden comment: RT0805BRE071ML)
Manufacturer: Yageo; Part Number: RT0805BRE071ML; Manufacturer 1: Yageo; Manufacturer Part Number 1: RT0805BRE071ML
footprint RESC2013X60X35ML10T20 (Chip Resistor, 2-Leads, Body 2.00x1.25mm, IPC Low Density)
footprint RESC2013X60X35NL10T20 (Chip Resistor, 2-Leads, Body 2.00x1.25mm, IPC Medium Density)
footprint RESC2013X60X35LL10T20 (Chip Resistor, 2-Leads, Body 2.00x1.25mm, IPC High Density)
pins: 1, 2
1 alternate drawing of the same symbol

## DF2B6.8AFS,L3M
designator D?
7V (Typ) Clamp 1A (8/20µs) Ipp Tvs Diode Surface Mount fSC (SOD-923); Supplier 1: Digi-Key; Supplier Part Number 1: DF2B6.8AFSL3MCT-ND
footprint SOD923 (SOD923 - 1-AH1A)
pins: 1 A1, 2 A2

## LMV7231SQE/NOPB
designator U?  Supplier Part Number 1: LMV7231SQE/NOPBCT-ND
Hex Window Comparator with 1.5% Precision and 400mV Reference, 24-pin LLP, 250 Reel; Manufacturer: Texas Instruments; PowerWise: N; PackageTopMarking: NS*UZXYTT*L7231SQ; Code_JEDEC: MO-220-WGGD-6; PinCount: 24; ComponentLink1Description: Datasheet URL; PackageDescription: LLP, Plastic, Quad, 4 x 4 x 0.8mm Body, 24 Lead, 0.5mm Pitch, No Pullback; PackageReference: RTW0024A; CompType: Comparator; RoHS: Y; ComponentLink1URL: http://www.ti.com/general/docs/lit/getliterature.tsp?genericPartNumber=LMV7231&fileType=pdf; Supplier 1: Digi-Key
footprint RTW0024A_V (QFN, 24-Leads, Body 4x4mm, Pitch 0.5mm, Thermal Pad 2.6x2.6mm, TI Recommended)
pins: 1 IN1- (in) "Negative input for window comparator 1", 2 IN1+ (in) "Positive input for window comparator 1", 3 IN2- (in) "Negative input for window comparator 2", 4 IN2+ (in) "Positive input for window comparator 2", 5 IN3- (in) "Negative input for window comparator 3", 6 IN3+ (in) "Positive input for window comparator 3", 7 IN4- (in) "Negative input for window comparator 4", 8 IN4+ (in) "Positive input for window comparator 4", 9 IN5- (in) "Negative input for window comparator 5", 10 IN5+ (in) "Positive input for window comparator 5", 11 IN6- (in) "Negative input for window comparator 6", 12 IN6+ (in) "Positive input for window comparator 6", 13 RESV "Connect to GND", 14 GND (power) "Ground reference pin for the power supply voltage", 15 COPOL (in) "The state of this pin determines whether the CO1-CO6 pins are active HIGH or LOW.", 16 AOSEL (in) "The state of this pin determines whether the AO pin is active on an over-voltage or under-voltage event.", 17 AO (oc) "This output is the ANDED combination of either the over- voltage comparator outputs or the under-voltage comparator outputs.", 18 CO6 (oc) "Window comparator 6 NMOS open-drain output", 19 CO5 (oc) "Window comparator 5 NMOS open-drain output", 20 CO4 (oc) "Window comparator 4 NMOS open-drain output", 21 CO3 (oc) "Window comparator 3 NMOS open-drain output", 22 CO2 (oc) "Window comparator 2 NMOS open-drain output", 23 CO1 (oc) "Window comparator 1 NMOS open-drain output", 24 V+ (power) "Power supply pin", 25 DAP (power) "Die Attach Paddle (DAP) connect to GND"

## LTC6994CS6-1#TRMPBF
designator U?  (value not drawn)
IC DELAY LINE 8TAP PROG TSOT23-6; Manufacturer: Linear Technologies; Capacitance: SKIP; Library Path1: parts/IC_Linear_Technologies_LTC6994CS6-1#TRMPBF_eec.SchLib; Value: SKIP; Part Number: LTC6994CS6-1#TRMPBF; Datasheet Path: datasheets/IC_Linear_Technologies_LTC6994CS6-1#TRMPBF_eec.pdf; ComponentLink1Description: Upverter; ComponentLink1URL: https://upverter.com/upn/revision/f62c3d807553aaaa/; ComponentLink2Description: Datasheet; ComponentLink2URL: http://cds.linear.com/docs/en/datasheet/699412fb.pdf; Datasheet Path1: datasheets/IC_Linear_Technologies_LTC6994CS6-1#TRMPBF_eec.pdf; Digikey Description: IC DELAY LINE 8TAP PROG TSOT23-6; Digikey Part Number: LTC6994CS6-1#TRMPBFCT-ND; Inductance: SKIP; Lead Free: yes; Library Ref1: LTC6994CS6-1#TRMPBF; Mouser Part Number: 584-C6994CS6-1TRMPBF; Package: TSOT23-6; Price: 2.01987952065; Resistance: SKIP; RoHS: TRUE; Supplier 1: Digi-Key; Supplier 2: Mouser; Supplier Part Number 1: LTC6994CS6-1#TRMPBFCT-ND; Supplier Part Number 2: 584-C6994CS6-1TRMPBF; Temperature: 0°C to +70°C; Temperature Range High: +70°C; Temperature Range Low: 0°C; Voltage: SKIP; helpURL: https://upverter.com/upn/revision/f62c3d807553aaaa/
footprint Linear_Technologies_LTC6994CS6-1#TRMPBF_0
pins: 1 IN, 2 GND, 3 SET, 4 DIV, 5 V+, 6 OUT

## MF-FSMF010X-2
designator F?
Polymeric PTC Resettable Fuse 15V 100mA Ih Surface Mount 0603 (1608 Metric), Concave; Supplier 1: Digi-Key; Supplier Part Number 1: MF-FSMF010X-2CT-ND
footprint MF-FSMF (MF-FSMF Series - PTC Resettable Fuse)
pins: 1, 2

## MMZ1608S121A
designator FB?, comment Ferrite Chip 120 Ohms  (value not drawn)
Ferrite Chip 500 mA 120 Ohms Differential Mode - Single 0603 Footprint; Manufacturer: TDK; P/N: MMZ1608S121A; Description in Visual: Ferrite SMT 500mA 120Ohm Dif Mode 0603; Usage: Signal Line; Current (mA): 500; Frequency: 100 MHz; Impedance at Freq (ohms): 120; DC Resistance (ohms): 0.2; PCB Package: 0603; Manufacturer P/N: MMZ1608S121A; Filter type: Differential Mode - Single; Operating Temperature Range: -55 to +125 °C; ComponentLink1Description: Manufacturer Website; ComponentLink1URL: http://www.tdk.com/; ComponentLink2Description: Component Datasheet; ComponentLink2URL: http://www.tdk.co.jp/tefe02/e9412_mmz1608.pdf; ComponentLink3Description: Octopart Link; ComponentLink3URL: http://octopart.com/partsearch/#search/requestData&q=MMZ1608S121A
footprint 0603
pins: 1, 2

## MTG M3
designator MTG?, comment PCB MTG M3  (value not drawn)  (no BOM)
PCB Mounting for M3 Screw; P/N: MTG M3; PCB Package: M3
footprint MTG-M3
pins: 1

## NET TIE
designator NT?, comment Net Tie  (net tie, no BOM)
Net Tie (No BOM)
footprint 10MIL_TIE
footprint 20MIL_TIE
footprint 20MIL EXPOSED TIE
pins: 1, 2
text: NET; TIE

## NMK1205SC
designator PS?
Isolated Module DC DC Converter 2 Output 5V -5V   200mA, 200mA 10.8V - 13.2V Input; Supplier 1: Digi-Key; Supplier Part Number 1: 811-3393-5-ND
footprint NMV0505SC
pins: 1 +VIN (power), 2 -VIN (power), 5 -VOUT (power), 6 0V (power), 7 +VOUT (power)

## PHR-4
designator P?  (mechanical)
4 Position Rectangular Housing Connector Receptacle Natural 0.079" (2.00mm); Supplier 1: Digi-Key; Supplier Part Number 1: 455-1164-ND

## Relay_Omron_Electronics_Inc._G5LE-1_DC5_eec
designator K?  (value not drawn)
RELAY GEN PURPOSE SPDT 10A 5V; Part Number: G5LE-1 DC5; Manufacturer: Omron Electronics Inc.; Voltage: 30V; coil_resistance: 63Ω; Operate Time: 10ms; Release Time: 5ms; Symbol 0 0: SPDT Relay; Num Pins: 5; helpURL: https://upverter.com/upn/revision/737368c9962922c8/; ComponentLink2Description: Datasheet; Temperature: -40°C to +85°C; Package: PTH_RELAY_21MM6_15MM6; Supplier 2: Mouser; Supplier 1: Digi-Key; ComponentLink1URL: https://upverter.com/upn/revision/737368c9962922c8/; Supplier Part Number 2: 653-G5LE-1-DC5; Supplier Part Number 1: Z1014-ND; ComponentLink1Description: Upverter; ComponentLink2URL: https://www.components.omron.com/components/web/PDFLIB.nsf/0/0293ACA6B03161CD86257538007424DB/$file/G5LE_0813.pdf; RoHS: TRUE; Mouser Part Number: 653-G5LE-1-DC5; coil_voltage: 5V; Temperature Range High: +85°C; Octopart Part Number: 11883359022; Digikey Description: RELAY GEN PURPOSE SPDT 10A 5V; Digikey Part Number: Z1014-ND; Type: integrated circuit; Lead Free: yes; Temperature Range Low: -40°C; contacts_type: SPDT; contact_current_rating: 10A
footprint Omron_Electronics_Inc._G5LE-1_DC5_0
pins: 1, 2, 3, 4, 5

## RES 0603 0 5%
designator R?  Val: 0  Tol: 5%  (hidden comment: RES 0603 0 5%)
Resistor Surface Mount, 0 Ohms, 0603 Footprint, 5% Tolerance 0.1W; Manufacturer: Various; PCB Package: 0603; Description in Visual: Res SMT 0 0603  5%  0.1W; Value: 0; P/N: RES 0603 0 5%; Manufacturer P/N: Various; Power_Rating: 0.1W; Tolerance: 5%
footprint 0603_RES
pins: 1, 2
1 alternate drawing of the same symbol

## RES 0603 10K 1%
designator R?  Val: 10K  Tol: 1%  (hidden comment: RES 0603 10K 1%)
Resistor Surface Mount, 10K Ohms, 0603 Footprint, 1% Tolerance 0.1W; Manufacturer: Various; PCB Package: 0603; Description in Visual: Res SMT 10K 0603  1%  0.1W; P/N: RES 0603 10K 1%; Manufacturer P/N: Various; Value: 10K; Power_Rating: 0.1W; Tolerance: 1%
footprint 0603_RES
pins: 1, 2
1 alternate drawing of the same symbol

## RES 0603 47K 1%
designator R?  Val: 47K  Tol: 1%  (hidden comment: RES 0603 47K 1%)
Resistor Surface Mount, 47K Ohms, 0603 Footprint, 1% Tolerance 0.1W; Manufacturer: Various; PCB Package: 0603; Description in Visual: Res SMT 47K 0603  1%  0.1W; P/N: RES 0603 47K 1%; Manufacturer P/N: Various; Value: 47K; Power_Rating: 0.1W; Tolerance: 1%
footprint 0603_RES
pins: 1, 2
1 alternate drawing of the same symbol

## RES 0603 49.9K 0.1%
designator R?  Val: 49.9K  Tol: 0.1%  (hidden comment: RES 0603 49.9K 0.1%)
Resistor Surface Mount, 49.9K Ohms, 0603 Footprint, 0.1% Tolerance 0.1W; Manufacturer: Various; PCB Package: 0603; Description in Visual: Res SMT 49.9K 0603  0.1%  0.1W; P/N: RES 0603 49.9K 0.1%; Manufacturer P/N: Various; Value: 49.9K; Power_Rating: 0.1W; Tolerance: 0.1%
footprint 0603_RES
pins: 1, 2
1 alternate drawing of the same symbol

## RES 0603 62.6K 0.1%
designator R?  Val: 62.6K  Tol: 0.1%  (hidden comment: RES 0603 62.6K 0.1%)
Resistor Surface Mount, 51K Ohms, 0603 Footprint, 0.05% Tolerance 0.1W; Manufacturer: Various; PCB Package: 0603; Description in Visual: Res SMT 62.6K 0603  0.05%  0.1W; P/N: RES 0603 62.6K 0.1%; Manufacturer P/N: Various; Value: 62.6K; Power_Rating: 0.1W; Tolerance: 0.1%
footprint 0603_RES
pins: 1, 2
1 alternate drawing of the same symbol

## RES 0603 100K 0.1%
designator R?  Val: 100K  Tol: 0.1%  (hidden comment: RES 0603 100K 0.1%)
Resistor Surface Mount, 100K Ohms, 0603 Footprint, 0.1% Tolerance 0.1W; Manufacturer: Various; PCB Package: 0603; Description in Visual: Res SMT 100K 0603  0.1%  0.1W; P/N: RES 0603 100K 0.1%; Manufacturer P/N: Various; Value: 100K; Power_Rating: 0.1W; Tolerance: 0.1%
footprint 0603_RES
pins: 1, 2
1 alternate drawing of the same symbol

## RES 0603 200 1%
designator R?  Val: 200  Tol: 1%  (hidden comment: RES 0603 200 1%)
Resistor Surface Mount, 200 Ohms, 0603 Footprint, 1% Tolerance 0.1W; Manufacturer: Various; PCB Package: 0603; Description in Visual: Res SMT 200 0603  1%  0.1W; Value: 200; P/N: RES 0603 200 1%; Manufacturer P/N: Various; Power_Rating: 0.1W; Tolerance: 1%
footprint 0603_RES
pins: 1, 2
1 alternate drawing of the same symbol

## RES 0603 330K 1%
designator R?  Val: 330K  Tol: 1%  (hidden comment: RES 0603 330K 1%)
Resistor Surface Mount, 330K Ohms, 0603 Footprint, 1% Tolerance 0.1W; Manufacturer: Various; PCB Package: 0603; Description in Visual: Res SMT 330K 0603  1%  0.1W; P/N: RES 0603 330K 1%; Manufacturer P/N: Various; Value: 330K; Power_Rating: 0.1W; Tolerance: 1%
footprint 0603_RES
pins: 1, 2
1 alternate drawing of the same symbol

## RES 0603 620 1%
designator R?  Val: 620  Tol: 1%  (hidden comment: RES 0603 620 1%)
Resistor Surface Mount, 620 Ohms, 0603 Footprint, 1% Tolerance 0.1W; Manufacturer: Various; PCB Package: 0603; Description in Visual: Res SMT 620 0603  1%  0.1W; Value: 620; P/N: RES 0603 620 1%; Manufacturer P/N: Various; Power_Rating: 0.1W; Tolerance: 1%
footprint 0603_RES
pins: 1, 2
1 alternate drawing of the same symbol

## RES 0805 2 1%
designator R?  Val: 2  Tol: 1%  (hidden comment: RES 0805 2 1%)
Resistor Surface Mount, 2 Ohms, 0805 Footprint, 1% Tolerance 0.125W; Manufacturer: Various; PCB Package: 0805; Description in Visual: Res SMT 2 0805  1%  0.125W; Value: 2; P/N: RES 0805 2 1%; Manufacturer P/N: Various; Power_Rating: 0.125W; Tolerance: 1%
footprint 0805_RES
pins: 1, 2
1 alternate drawing of the same symbol

## RES 0805 523K 0.1%
designator R?  Val: 523K  Tol: 0.1%  (hidden comment: RES 0805 523K 0.1%)
Resistor Surface Mount, 523K Ohms, 0805 Footprint, 0.1% Tolerance 0.125W; Manufacturer: Various; PCB Package: 0805; Description in Visual: Res SMT 523K 0805  0.1%  0.125W; P/N: RES 0805 523K 0.1%; Manufacturer P/N: Various; Value: 523K; Power_Rating: 0.125W; Tolerance: 0.1%
footprint 0805_RES
pins: 1, 2
1 alternate drawing of the same symbol

## SM0805GCL
designator D?
Green 574nm LED Indication - Discrete 1.9V 0805 (2012 Metric); Supplier 1: Digi-Key; Supplier Part Number 1: 492-2525-1-ND
footprint LEDC2012X135N_SM0805GCL(Primary)
pins: A, C

## SM0805HCL
designator D?
Red 631nm LED Indication - Discrete 1.9V 0805 (2012 Metric); Supplier 1: Digi-Key; Supplier Part Number 1: 492-2281-1-ND
footprint LEDC2012X135N_SM0805HCL(Primary)
pins: A, C

## SXH-001T-P0.6
designator PIN?  (mechanical)
Socket Contact Tin 22-28 AWG Crimp Stamped; Supplier 1: Newark; Supplier Part Number 1: 49Y1258

## TEL 3-1223
designator PS?
Isolated Module DC DC Converter 2 Output 15V -15V   100mA, 100mA 9V - 18V Input; Supplier 1: Digi-Key
footprint TEL 3-1223
pins: 1 +VIN (power), 2 -VOUT (power), 3 COM (power), 10 COM (power), 11 +VOUT (power), 12 -VIN (GND) (power), 13 -VIN (GND) (power), 14 +VOUT (power), 15 COM (power), 22 COM (power), 23 -VOUT (power), 24 +VIN (power)

## UUD1V331MNL1GS
designator C?  Rated Capacitance: 330 uF  (hidden comment: UUD1V331MNL1GS)
Aluminum Electrolytic Capacitor, UD Series, Low Impedance, 330 uF, 35 V, + / - 20%, -55 to 105 degC, Chip Type, 10 x 10 mm D x L, Pb-Free, Reel; Manufacturer: Nichicon; Tolerance Rated Capacitance: -20 to 20%; Packing: Dia382mm Reel; Rated Voltage: 35 V; Rated Ripple Current (at 100kHz): 670 mA; Impedance: 0.09 Ohm; Endurance Time: 5000 h; Mounting Technology: Surface Mount; ComponentLink1Description: Manufacturer URL; PackageReference: CAPAE-D10H10; PartNumber: UUD1V331MNL1GS; ComponentLink2Description: Datasheet; Diameter: 10 mm; PackageDescription: 2-Pin Surface Mount Device, Diameter 10 mm, Height 10 mm, Pitch 8 mm; ComponentLink2URL: http://products.nichicon.co.jp/en/pdf/XJA043/e-ud.pdf; Length: 10 mm; ComponentLink3URL: http://products.nichicon.co.jp/en/pdf/XJA043/e-ud.pdf; DatasheetVersion: 08/2012; ComponentLink3Description: Package Specification; ComponentLink1URL: http://www.nichicon.co.jp/; RoHS: TRUE; Manufacturer 1: Nichicon; Manufacturer Part Number 1: UUD1V331MNL1GS; Supplier 1: Digi-Key; Supplier Part Number 1: 493-2293-1-ND
footprint NIC-CAPA2-10X10_V (Aluminum Electrolytic Capacitor, Diameter 10mm, Height 10.8mm, Pitch 8mm)
pins: 1, 2